# EAGLE library part CC2564BRVMR (library Texas Instruments)
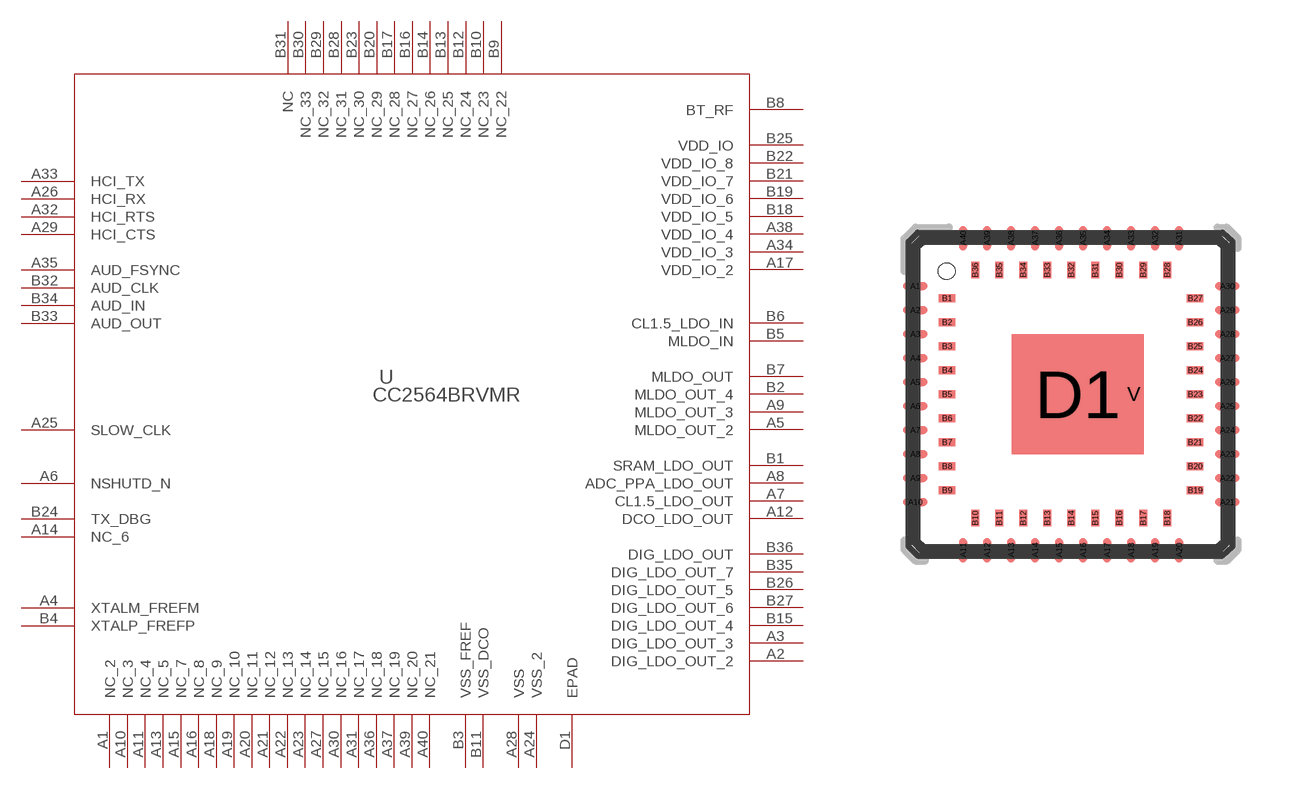
[diagram p6: symbol with the pads of RVM0076A; footprint RVM0076A]

Designator prefix U

## CC2564BRVMR (APPLICATION_BUILDNUMBER: *; COMPTYPE: IC; MANUFACTURER: Texas Instruments; MOUNTTYPE: SMT; PACKAGEREFERENCE: RVM0076A; PARTNUMBER: CC2564RVM; PIN_COUNT: 77; REFDES: RefDes; ROHS: Y; TYPE: TYPE; VALUE: Value)  [RVM0076A]
A1  NC_2  pas
A2  DIG_LDO_OUT_2  pwr
A3  DIG_LDO_OUT_3  pwr
A4  XTALM_FREFM  in
A5  MLDO_OUT_2  pwr
A6  NSHUTD_N  in
A7  CL1.5_LDO_OUT  pwr
A8  ADC_PPA_LDO_OUT  pwr
A9  MLDO_OUT_3  pwr
A10  NC_3  pas
A11  NC_4  pas
A12  DCO_LDO_OUT  pwr
A13  NC_5  pas
A14  NC_6  pas
A15  NC_7  pas
A16  NC_8  pas
A17  VDD_IO_2  pwr
A18  NC_9  pas
A19  NC_10  pas
A20  NC_11  pas
A21  NC_12  pas
A22  NC_13  pas
A23  NC_14  pas
A24  VSS_2  pwr
A25  SLOW_CLK  in
A26  HCI_RX  in
A27  NC_15  pas
A28  VSS  pwr
A29  HCI_CTS  in
A30  NC_16  pas
A31  NC_17  pas
A32  HCI_RTS  out
A33  HCI_TX  out
A34  VDD_IO_3  pwr
A35  AUD_FSYNC
A36  NC_18  pas
A37  NC_19  pas
A38  VDD_IO_4  pwr
A39  NC_20  pas
A40  NC_21  pas
B1  SRAM_LDO_OUT  pwr
B2  MLDO_OUT_4  pwr
B3  VSS_FREF  pwr
B4  XTALP_FREFP  in
B5  MLDO_IN  pwr
B6  CL1.5_LDO_IN  pwr
B7  MLDO_OUT  pwr
B8  BT_RF
B9  NC_22  pas
B10  NC_23  pas
B11  VSS_DCO  pwr
B12  NC_24  pas
B13  NC_25  pas
B14  NC_26  pas
B15  DIG_LDO_OUT_4  pwr
B16  NC_27  pas
B17  NC_28  pas
B18  VDD_IO_5  pwr
B19  VDD_IO_6  pwr
B20  NC_29  pas
B21  VDD_IO_7  pwr
B22  VDD_IO_8  pwr
B23  NC_30  pas
B24  TX_DBG  out
B25  VDD_IO  pwr
B26  DIG_LDO_OUT_5  pwr
B27  DIG_LDO_OUT_6  pwr
B28  NC_31  pas
B29  NC_32  pas
B30  NC_33  pas
B31  NC  pas
B32  AUD_CLK
B33  AUD_OUT  out
B34  AUD_IN  in
B35  DIG_LDO_OUT_7  pwr
B36  DIG_LDO_OUT  pwr
D1  EPAD  pwr

## Footprint RVM0076A (pad centres in mm)
smd 0.61 x 0.203: A1 -3.9,2.7; A2 -3.9,2.1; A3 -3.9,1.5; A4 -3.9,0.9; A5 -3.9,0.3; A6 -3.9,-0.3; A7 -3.9,-0.9; A8 -3.9,-1.5; A9 -3.9,-2.1; A10 -3.9,-2.7; A21 3.9,-2.7; A22 3.9,-2.1; A23 3.9,-1.5; A24 3.9,-0.9; A25 3.9,-0.3; A26 3.9,0.3; A27 3.9,0.9; A28 3.9,1.5; A29 3.9,2.1; A30 3.9,2.7
smd 0.203 x 0.61: A11 -2.7,-3.9; A12 -2.1,-3.9; A13 -1.5,-3.9; A14 -0.9,-3.9; A15 -0.3,-3.9; A16 0.3,-3.9; A17 0.9,-3.9; A18 1.5,-3.9; A19 2.1,-3.9; A20 2.7,-3.9; A31 2.7,3.9; A32 2.1,3.9; A33 1.5,3.9; A34 0.9,3.9; A35 0.3,3.9; A36 -0.3,3.9; A37 -0.9,3.9; A38 -1.5,3.9; A39 -2.1,3.9; A40 -2.7,3.9
smd 0.406 x 0.203: B1 -3.1,2.4; B2 -3.1,1.8; B3 -3.1,1.2; B4 -3.1,0.6; B5 -3.1,0; B6 -3.1,-0.6; B7 -3.1,-1.2; B8 -3.1,-1.8; B9 -3.1,-2.4; B19 3.1,-2.4; B20 3.1,-1.8; B21 3.1,-1.2; B22 3.1,-0.6; B23 3.1,0; B24 3.1,0.6; B25 3.1,1.2; B26 3.1,1.8; B27 3.1,2.4
smd 0.203 x 0.406: B10 -2.4,-3.1; B11 -1.8,-3.1; B12 -1.2,-3.1; B13 -0.6,-3.1; B14 0,-3.1; B15 0.6,-3.1; B16 1.2,-3.1; B17 1.8,-3.1; B18 2.4,-3.1; B28 2.4,3.1; B29 1.8,3.1; B30 1.2,3.1; B31 0.6,3.1; B32 0,3.1; B33 -0.6,3.1; B34 -1.2,3.1; B35 -1.8,3.1; B36 -2.4,3.1
smd 3.302 x 2.997: D1 0.17,0
smd 0.508 x 0.508: V 1.57,0